# Altium footprint library 张志松开发板.PcbLib: 38 footprints (part 2 of 3)
Each footprint in its own frame and in the unit in brackets; x right, y up, seen from the top. Pads: shape width x height; smd on the part's side, far side on the other; paste and mask are expansions set on the pad; w line width, h text height; cw(c..) or ccw(c..) is an arc to the next point about the centre after c.
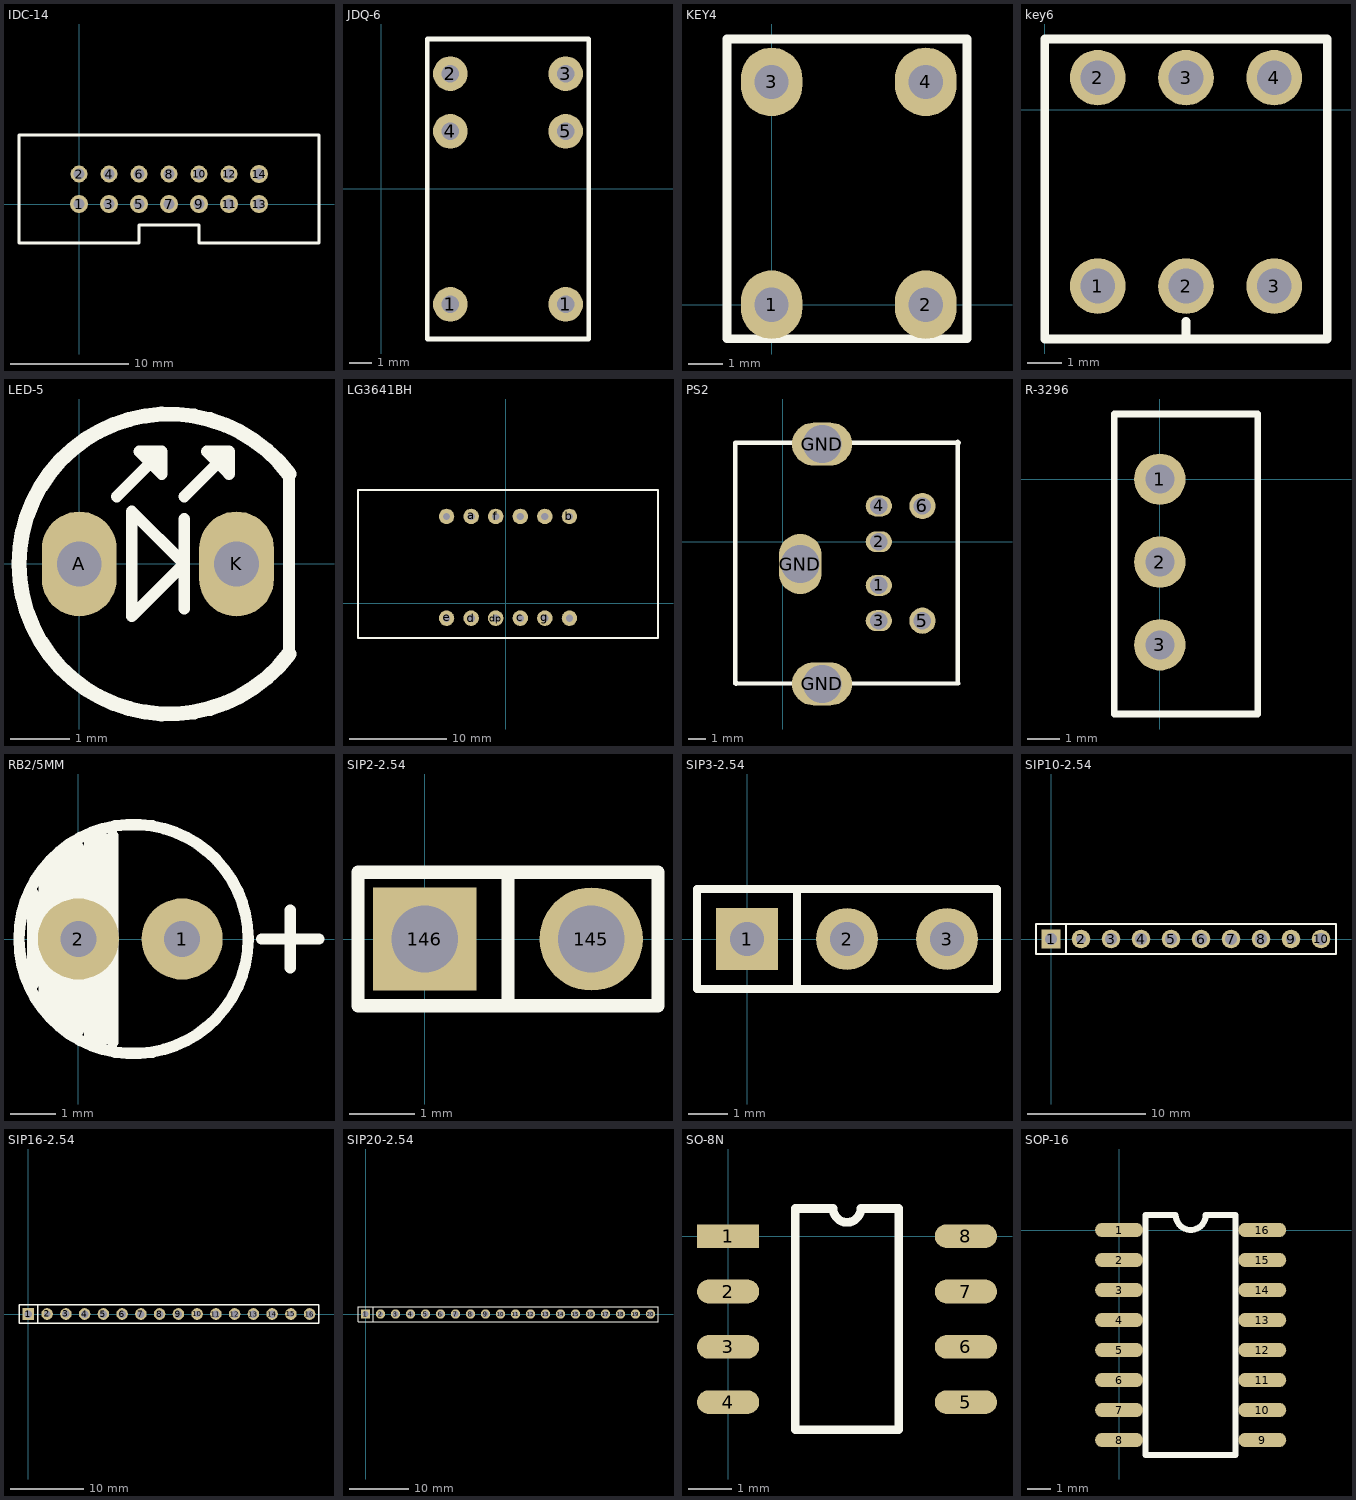
[diagram p1: the footprints below, top view; thin cyan lines are the x and y axes]

## IDC-14 [mil]
pads (14):
  round 60 hole 38: 1(0,0) 3(100,0) 5(200,0) 7(300,0) 9(400,0) 11(500,0) 13(600,0) 14(600,100)
  round 56 hole 38: 2(0,100) 4(100,100) 6(200,100) 8(300,100) 10(400,100) 12(500,100)
Top Overlay:
  lines w10: -200,-130 -200,230 800,230 800,-130 400,-130 400,-70 200,-70 200,-130 -200,-130

## JDQ-6 [mil]
pads (6):
  round 60 hole 30: 1(120,-200) 1(320,-200) 2(120,200) 3(320,200) 4(120,100) 5(320,100)
Top Overlay:
  lines w8: 80,-260 80,-240 80,240 80,260 360,260 360,240 360,-240 360,-260 80,-260

## KEY4 [mm]
pads (4):
  oval 1.8x2 hole 1: 1(0,0) 2(4.5,0) 3(0,6.5) 4(4.5,6.5)
Top Overlay:
  lines w0.254: -1.3,-0.996 5.7,-0.996 5.7,7.754 -1.3,7.754 -1.3,-0.996

## key6 [mm]
pads (6):
  round 1.6 hole 1: 1(1.524,-5.08) 2(1.524,0.92) 2(4.064,-5.08) 3(4.064,0.92) 3(6.604,-5.08) 4(6.604,0.92)
Top Overlay:
  lines w0.254: 4.064,-6.604 4.064,-6.096 ; 0,-6.604 0,2.032 8.128,2.032 8.128,-6.604 0,-6.604

## LED-5 [mil]
pads (2):
  oval 50x70 hole 30: A(0,0) K(105,0)
Top Overlay:
  lines w7.78: 25,45 55,75 ; 70,-30 70,30 ; 70,45 100,75 ; 140,-60.15 140,60 ; 55,75 40,75 55,60 55,75 ; 100,75 85,75 100,60 100,75 ; 35,-35 70,0 35,35 35,-35
  lines w10: 140,-60.15 cw(c59.9,-0.07) 140,60

## LG3641BH [mil]
pads (12):
  round 62.99 hole 30: a(-140,353.39) b(260,353.39) c(60,-60) com1(260,-60) com2(160,353.39) com3(60,353.39) com4(-240,353.39) d(-140,-60) dp(-40,-60) e(-240,-60) f(-40,353.39) g(160,-60)
Top Overlay:
  lines w8: -600,-140 -600,460 -540,460 600,460 620,460 620,-140 600,-140 -540,-140 -600,-140

## PS2 [mil]
pads (9):
  oval 60x48 hole 40: 1(220,-100) 2(220,0) 3(220,-181) 4(220,82)
  round 60 hole 40: 5(320,-181) 6(320,82)
  oval 98.42x137.79 hole 88: GND(40,-51)
  oval 137.79x98.42 hole 88: GND(90,-326) GND(90,224)
Top Overlay:
  lines w10: -107.37,-326.09 -107.37,-321.09 ; 401,-323 401,229 ; 402,-325 -109,-325 -109,227.28 403.28,227.28

## R-3296 [mil]
pads (3):
  round 62 hole 35: 1(0,0) 2(0,-100) 3(0,-200)
Top Overlay:
  lines w8: -55.12,-283.46 -55.12,78.74 118.11,78.74 118.11,-283.46 -55.12,-283.46

## RB2/5MM [mm]
pads (2):
  round 1.8 hole 0.8: 1(2.3,0) 2(0,0)
Top Overlay:
  circle w0.254: c1.224,0 r2.54
  lines w0.254: -1.016,-1.016 -1.016,1.016 ; -0.762,-1.524 -0.762,1.524 ; -0.508,-1.778 -0.508,1.778 ; -0.254,-2.032 -0.254,2.032 ; 0,-2.032 0,2.032 ; 0.254,-2.286 0.254,2.286 ; 0.508,-2.286 0.508,2.286 ; 0.762,-2.286 0.762,2.286 ; 4.064,0 5.334,0 ; 4.699,-0.635 4.699,0.635

## SIP2-2.54 [mil]
pads (2):
  round 62 hole 40: 145(100,0)
  rect 62x62 hole 40: 146(0,0)
Top Overlay:
  lines w8: 50,-40 50,40 ; -40,-40 -40,40 140,40 140,-40 -40,-40

## SIP3-2.54 [mil]
pads (3):
  rect 62x62 hole 34: 1(0,0)
  round 62 hole 34: 2(100,0) 3(200,0)
Top Overlay:
  lines w8: 50,-50 50,50 ; -50,-50 -50,50 250,50 250,-50 -50,-50

## SIP10-2.54 [mil]
pads (10):
  rect 62x62 hole 40: 1(0,0)
  round 62 hole 34: 2(100,0) 9(800,0)
  round 62 hole 40: 3(200,0) 4(300,0) 5(400,0) 6(500,0) 7(600,0) 8(700,0) 10(900,0)
Top Overlay:
  lines w8: 50,-50 50,50 ; -50,-50 950,-50 950,50 -50,50 -50,-50

## SIP16-2.54 [mil]
pads (16):
  rect 62x62 hole 40: 1(0,0)
  round 62 hole 34: 2(100,0) 10(900,0) 15(1400,0)
  round 62 hole 40: 3(200,0) 4(300,0) 5(400,0) 6(500,0) 7(600,0) 8(700,0) 9(800,0) 11(1000,0) 12(1100,0) 13(1200,0) 14(1300,0) 16(1500,0)
Top Overlay:
  lines w8: 50,-50 50,50 ; -50,-50 -50,50 1550,50 1550,-50 -50,-50

## SIP20-2.54 [mil]
pads (20):
  rect 62x62 hole 40: 1(0,0)
  round 62 hole 34: 2(100,0) 11(1000,0) 19(1800,0)
  round 62 hole 40: 3(200,0) 4(300,0) 5(400,0) 6(500,0) 7(600,0) 8(700,0) 9(800,0) 10(900,0) 12(1100,0) 13(1200,0) 14(1300,0) 15(1400,0) 16(1500,0) 17(1600,0) 18(1700,0) 20(1900,0)
Top Overlay:
  lines w8: 50,-50 50,50 ; -50,-50 1950,-50 1950,50 -50,50 -50,-50

## SO-8N [mm]
pads (8):
  rect 1.44x0.55 smd: 1(0,0)
  oval 1.44x0.55 smd: 2(0,-1.28) 3(0,-2.56) 4(0,-3.84) 5(5.5,-3.84) 6(5.5,-2.56) 7(5.5,-1.28) 8(5.5,0)
Top Overlay:
  lines w0.2: 1.555,-4.48 3.945,-4.48 3.945,0.64 3.07,0.64 cw(c2.75,0.64) 2.43,0.64 1.555,0.64 1.555,-4.48

## SOP-16 [mil]
pads (16):
  oval 80x24 smd: 1(0,0) 2(0,-50) 3(0,-100) 4(0,-150) 5(0,-200) 6(0,-250) 7(0,-300) 8(0,-350) 9(238.5,-350) 10(238.5,-300) 11(238.5,-250) 12(238.5,-200) 13(238.5,-150) 14(238.5,-100) 15(238.5,-50) 16(238.5,0)
Top Overlay:
  lines w10: 44.25,-375 44.25,25 94.25,25 ccw(c119.25,25) 144.25,25 194.25,25 194.25,-375 44.25,-375